# EAGLE library part 6PIN-RESISTOR-NETWORK (library 6 pin resistor network)
6 pin, standard resistor network
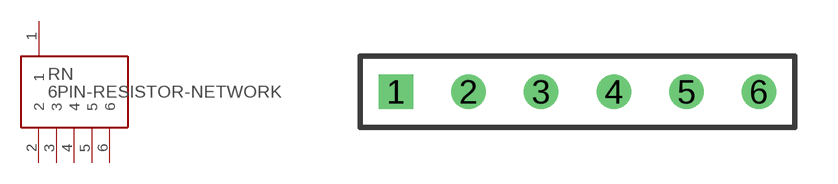
[diagram p0: symbol with the pads of 6PIN-RESISTOR-NETWORK; footprint 6PIN-RESISTOR-NETWORK]

Designator prefix RN

## 6PIN-RESISTOR-NETWORK6PIN-RESISTOR-NETWORK (HEIGHT: mm)  [6PIN-RESISTOR-NETWORK]
1  1
2  2
3  3
4  4
5  5
6  6

## Footprint 6PIN-RESISTOR-NETWORK (pad centres in mm)
6pin-resistor-network
drill 0.7 square: 1 0,0
drill 0.7: 2 2.54,0; 3 5.08,0; 4 7.62,0; 5 10.16,0; 6 12.7,0